# EAGLE library part TPA6111 (library mapesynth_2pag)
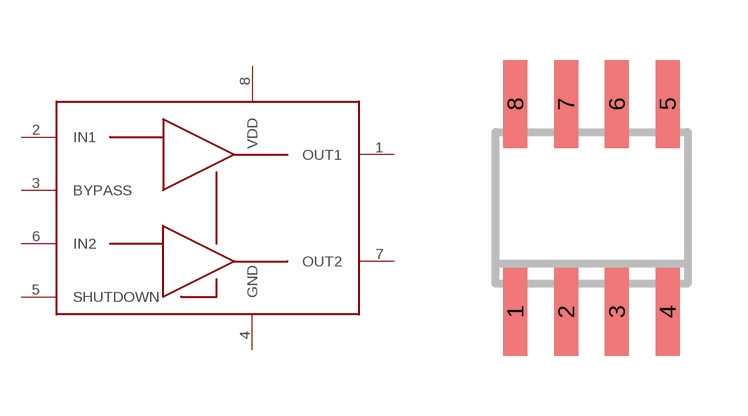
[diagram p4: symbol with the pads of SO-08; footprint SO-08]

Designator prefix -

## TPA6111  [SO-08]
1  OUT1
2  IN1
3  BYPASS
4  GND
5  SHUTDOWN
6  IN2
7  OUT2
8  VDD

## Footprint SO-08 (pad centres in mm)
Small Outline Narrow Plastic Gull Wing 150-mil body, package type SN
smd 0.6 x 2.2: 1 -1.905,-2.6; 2 -0.635,-2.6; 3 0.635,-2.6; 4 1.905,-2.6; 5 1.905,2.6; 6 0.635,2.6; 7 -0.635,2.6; 8 -1.905,2.6